# EAGLE library part XS1-L6A-64-TQ48-C5 (library ICs)
32 Bit Microcontroller, 6 Core, General Purpose, xCORE, 500 MHz, 8 KB, 64 KB, 48, TQFP
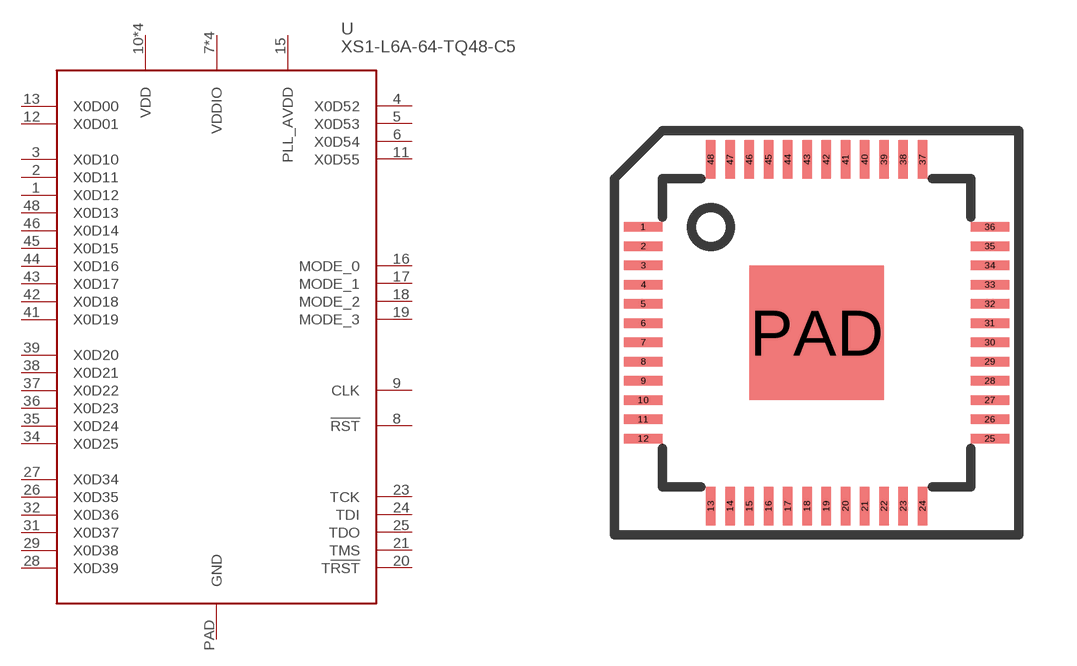
[diagram p99: symbol with the pads of QFP48_XMOS; footprint QFP48_XMOS]

Designator prefix U

## XS1-L6A-64-TQ48-C5 (FARNELL: 2424396; PROIE_PER: 5.125; VALUE: XS1-L6A-64)  [QFP48_XMOS]
1  X0D12
2  X0D11
3  X0D10
4  X0D52
5  X0D53
6  X0D54
7  VDDIO
8  !RST
9  CLK
10  VDD
11  X0D55
12  X0D01
13  X0D00
14  VDDIO
15  PLL_AVDD
16  MODE_0
17  MODE_1
18  MODE_2
19  MODE_3
20  T!RST
21  TMS
22  VDD
23  TCK
24  TDI
25  TDO
26  X0D35
27  X0D34
28  X0D39
29  X0D38
30  VDDIO
31  X0D37
32  X0D36
33  VDD
34  X0D25
35  X0D24
36  X0D23
37  X0D22
38  X0D21
39  X0D20
40  VDDIO
41  X0D19
42  X0D18
43  X0D17
44  X0D16
45  X0D15
46  X0D14
47  VDD
48  X0D13
PAD  GND

## Footprint QFP48_XMOS (pad centres in mm)
smd 1 x 0.25: 1 -4.5,2.75; 2 -4.5,2.25; 3 -4.5,1.75; 4 -4.5,1.25; 5 -4.5,0.75; 6 -4.5,0.25; 7 -4.5,-0.25; 8 -4.5,-0.75; 9 -4.5,-1.25; 10 -4.5,-1.75; 11 -4.5,-2.25; 12 -4.5,-2.75; 25 4.5,-2.75; 26 4.5,-2.25; 27 4.5,-1.75; 28 4.5,-1.25; 29 4.5,-0.75; 30 4.5,-0.25; 31 4.5,0.25; 32 4.5,0.75; 33 4.5,1.25; 34 4.5,1.75; 35 4.5,2.25; 36 4.5,2.75
smd 0.25 x 1: 13 -2.75,-4.5; 14 -2.25,-4.5; 15 -1.75,-4.5; 16 -1.25,-4.5; 17 -0.75,-4.5; 18 -0.25,-4.5; 19 0.25,-4.5; 20 0.75,-4.5; 21 1.25,-4.5; 22 1.75,-4.5; 23 2.25,-4.5; 24 2.75,-4.5; 37 2.75,4.5; 38 2.25,4.5; 39 1.75,4.5; 40 1.25,4.5; 41 0.75,4.5; 42 0.25,4.5; 43 -0.25,4.5; 44 -0.75,4.5; 45 -1.25,4.5; 46 -1.75,4.5; 47 -2.25,4.5; 48 -2.75,4.5
smd 3.5 x 3.5: PAD 0,0